# EAGLE library part LCMXO2-CN2 (library PartsForProto)
LCMX02変換基板用I/Fピン-2
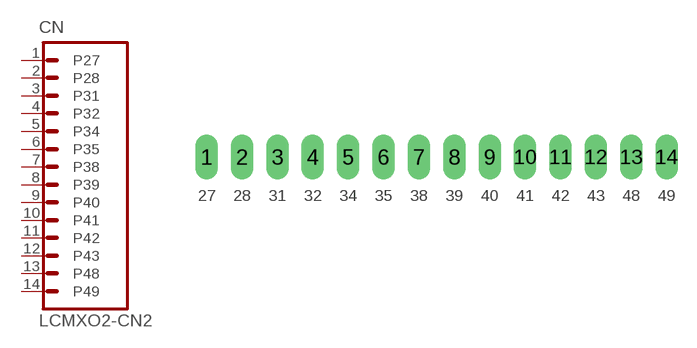
[diagram p3: symbol with the pads of LCMXO2-CN-2; footprint LCMXO2-CN-2]

Designator prefix CN

## LCMXO2-CN2  [LCMXO2-CN-2]
1  P27
2  P28
3  P31
4  P32
5  P34
6  P35
7  P38
8  P39
9  P40
10  P41
11  P42
12  P43
13  P48
14  P49

## Footprint LCMXO2-CN-2 (pad centres in mm)
PIN HEADER
drill 1 pad 1.6 long: 1 0,0; 2 2.54,0; 3 5.08,0; 4 7.62,0; 5 10.16,0; 6 12.7,0; 7 15.24,0; 8 17.78,0; 9 20.32,0; 10 22.86,0; 11 25.4,0; 12 27.94,0; 13 30.48,0; 14 33.02,0